# Altium schematic symbol library Schlib_Elvees.SchLib: 3 symbols
Pins are listed as number, name and electrical type; pins without a type are passive.

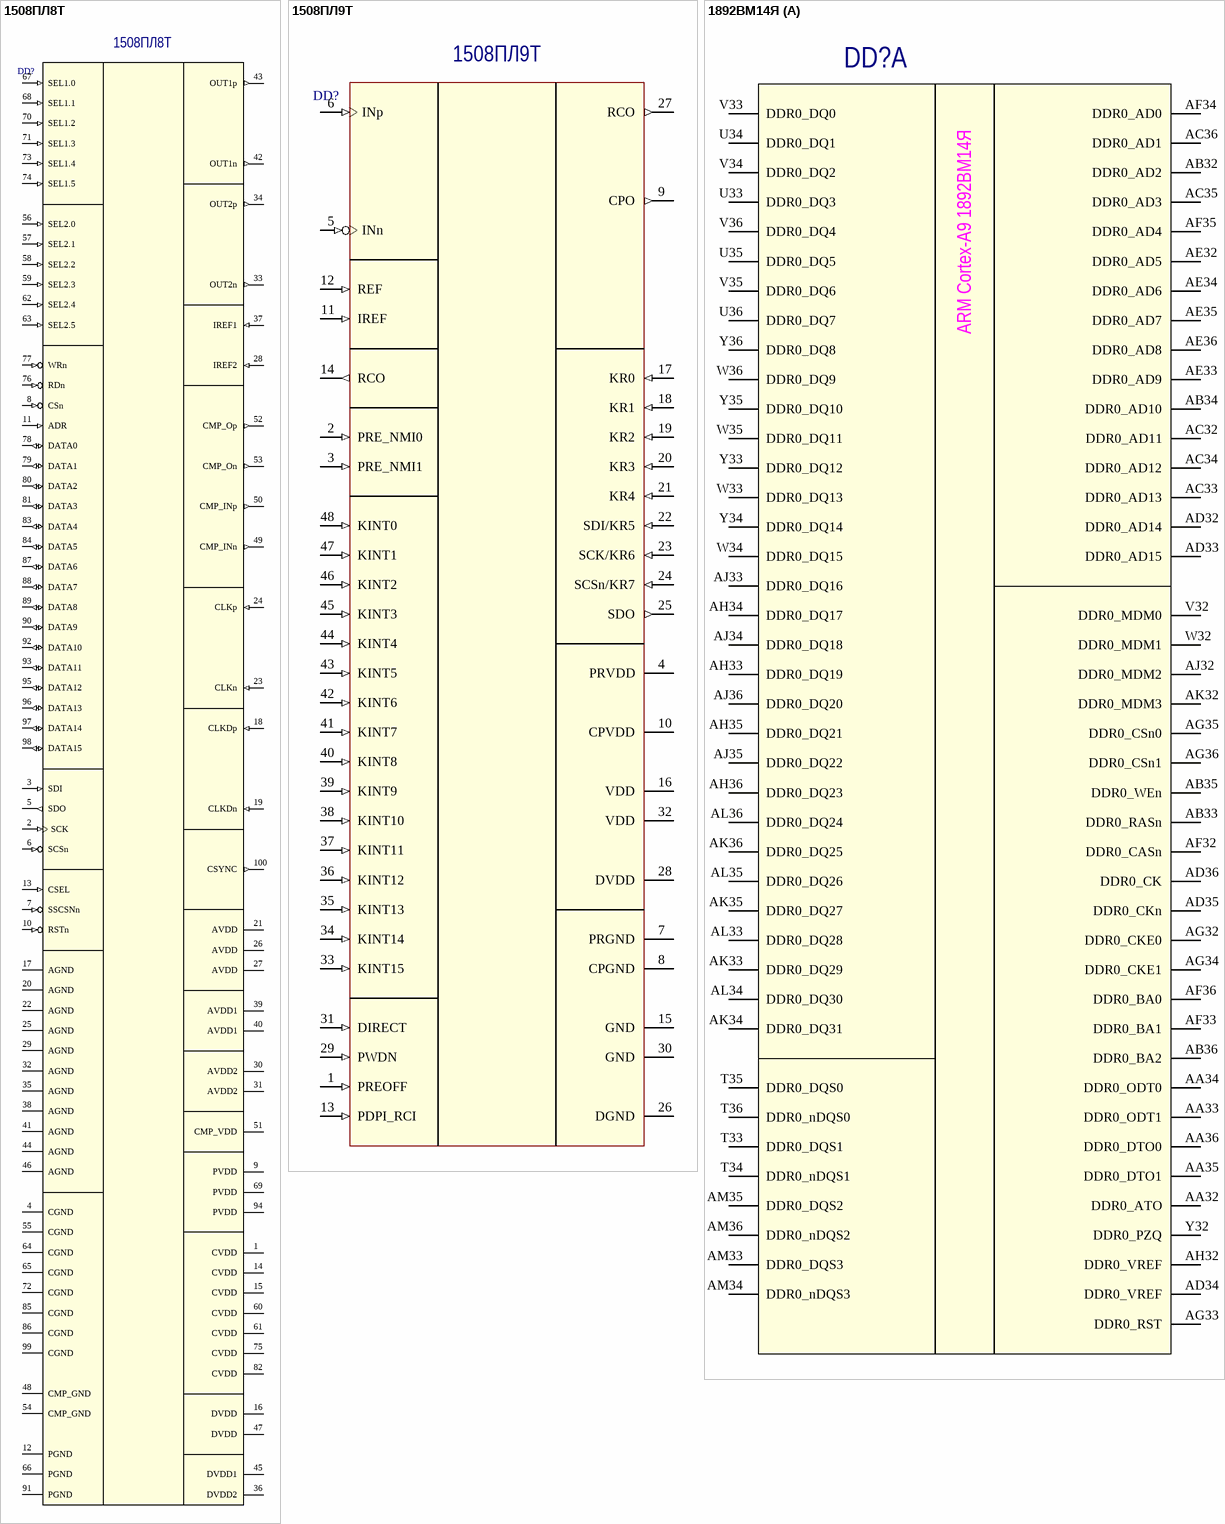
[diagram p0: symbols 1508ПЛ8Т to 1892ВМ14Я]

## 1508ПЛ8Т
designator DD?
DDS; Package: LQFP-100; Part Number: 1508ПЛ8Т
footprint LQFP-100 (TSQFP, 100-Leads, Body 14,00x14,00mm, Pitch 0,50mm, IPC Medium Density)
pins: 1 CVDD (power), 2 SCK (in), 3 SDI (in), 4 CGND (power), 5 SDO (out), 6 SCSn (in), 7 SSCSNn (in), 8 CSn (in), 9 PVDD (power), 10 RSTn (in), 11 ADR (in), 12 PGND (power), 13 CSEL (in), 14 CVDD (power), 15 CVDD (power), 16 DVDD (power), 17 AGND (power), 18 CLKDp (in), 19 CLKDn (in), 20 AGND (power), 21 AVDD (power), 22 AGND (power), 23 CLKn (in), 24 CLKp (in), 25 AGND (power), 26 AVDD (power), 27 AVDD (power), 28 IREF2 (in), 29 AGND (power), 30 AVDD2 (power), 31 AVDD2 (power), 32 AGND (power), 33 OUT2n (out), 34 OUT2p (out), 35 AGND (power), 36 DVDD2 (power), 37 IREF1 (in), 38 AGND (power), 39 AVDD1 (power), 40 AVDD1 (power), 41 AGND (power), 42 OUT1n (out), 43 OUT1p (out), 44 AGND (power), 45 DVDD1 (power), 46 AGND (power), 47 DVDD (power), 48 CMP_GND (power), 49 CMP_INn (out), 50 CMP_INp (out), 51 CMP_VDD (power), 52 CMP_Op (out), 53 CMP_On (out), 54 CMP_GND (power), 55 CGND (power), 56 SEL2.0 (in), 57 SEL2.1 (in), 58 SEL2.2 (in), 59 SEL2.3 (in), 60 CVDD (power), 61 CVDD (power), 62 SEL2.4 (in), 63 SEL2.5 (in), 64 CGND (power), 65 CGND (power), 66 PGND (power), 67 SEL1.0 (in), 68 SEL1.1 (in), 69 PVDD (power), 70 SEL1.2 (in), 71 SEL1.3 (in), 72 CGND (power), 73 SEL1.4 (in), 74 SEL1.5 (in), 75 CVDD (power), 76 RDn (in), 77 WRn (in), 78 DATA0 (io), 79 DATA1 (io), 80 DATA2 (io), 81 DATA3 (io), 82 CVDD (power), 83 DATA4 (io), 84 DATA5 (io), 85 CGND (power), 86 CGND (power), 87 DATA6 (io), 88 DATA7 (io), 89 DATA8 (io), 90 DATA9 (io), 91 PGND (power), 92 DATA10 (io), 93 DATA11 (io), 94 PVDD (power), 95 DATA12 (io), 96 DATA13 (io), 97 DATA14 (io), 98 DATA15 (io), 99 CGND (power), 100 CSYNC (out)

## 1508ПЛ9Т
designator DD?
PLL; Package: LQFP-48; Part Number: 1508ПЛ9Т
footprint LQFP-48 (TSQFP, 48-Leads, Body 7,00x7,00mm, Pitch 0,50mm, IPC Medium Density)
pins: 1 PREOFF (in), 2 PRE_NMI0 (in), 3 PRE_NMI1 (in), 4 PRVDD (power), 5 INn (in), 6 INp (in), 7 PRGND (power), 8 CPGND (power), 9 CPO (out), 10 CPVDD (power), 11 IREF (in), 12 REF (in), 13 PDPI_RCI (in), 14 RCO (out), 15 GND (power), 16 VDD (power), 17 KR0 (in), 18 KR1 (in), 19 KR2 (in), 20 KR3 (in), 21 KR4 (in), 22 SDI/KR5 (in), 23 SCK/KR6 (in), 24 SCSn/KR7 (in), 25 SDO (out), 26 DGND (power), 27 RCO (out), 28 DVDD (power), 29 PWDN (in), 30 GND (power), 31 DIRECT (in), 32 VDD (power), 33 KINT15 (in), 34 KINT14 (in), 35 KINT13 (in), 36 KINT12 (in), 37 KINT11 (in), 38 KINT10 (in), 39 KINT9 (in), 40 KINT8 (in), 41 KINT7 (in), 42 KINT6 (in), 43 KINT5 (in), 44 KINT4 (in), 45 KINT3 (in), 46 KINT2 (in), 47 KINT1 (in), 48 KINT0 (in)

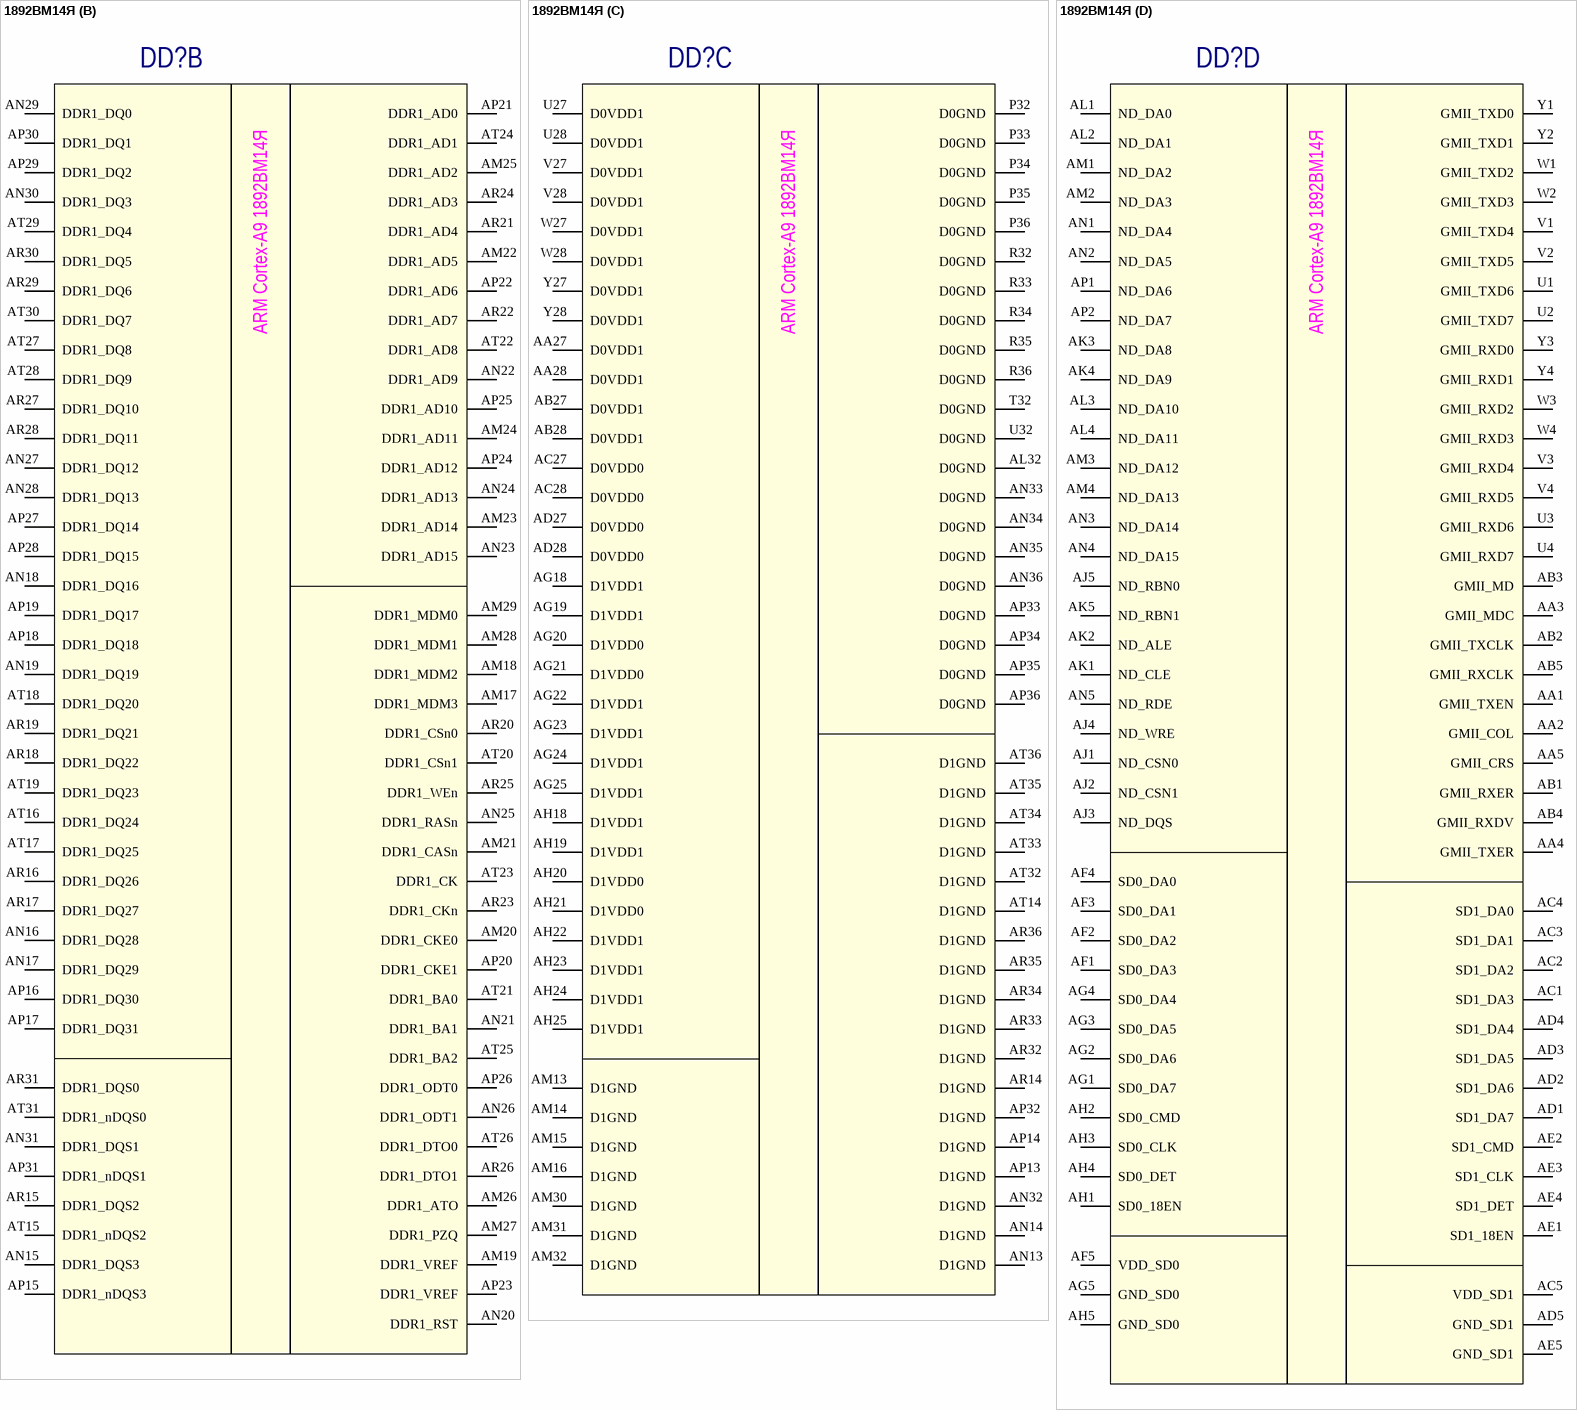
[diagram p1: symbol 1892ВМ14Я]

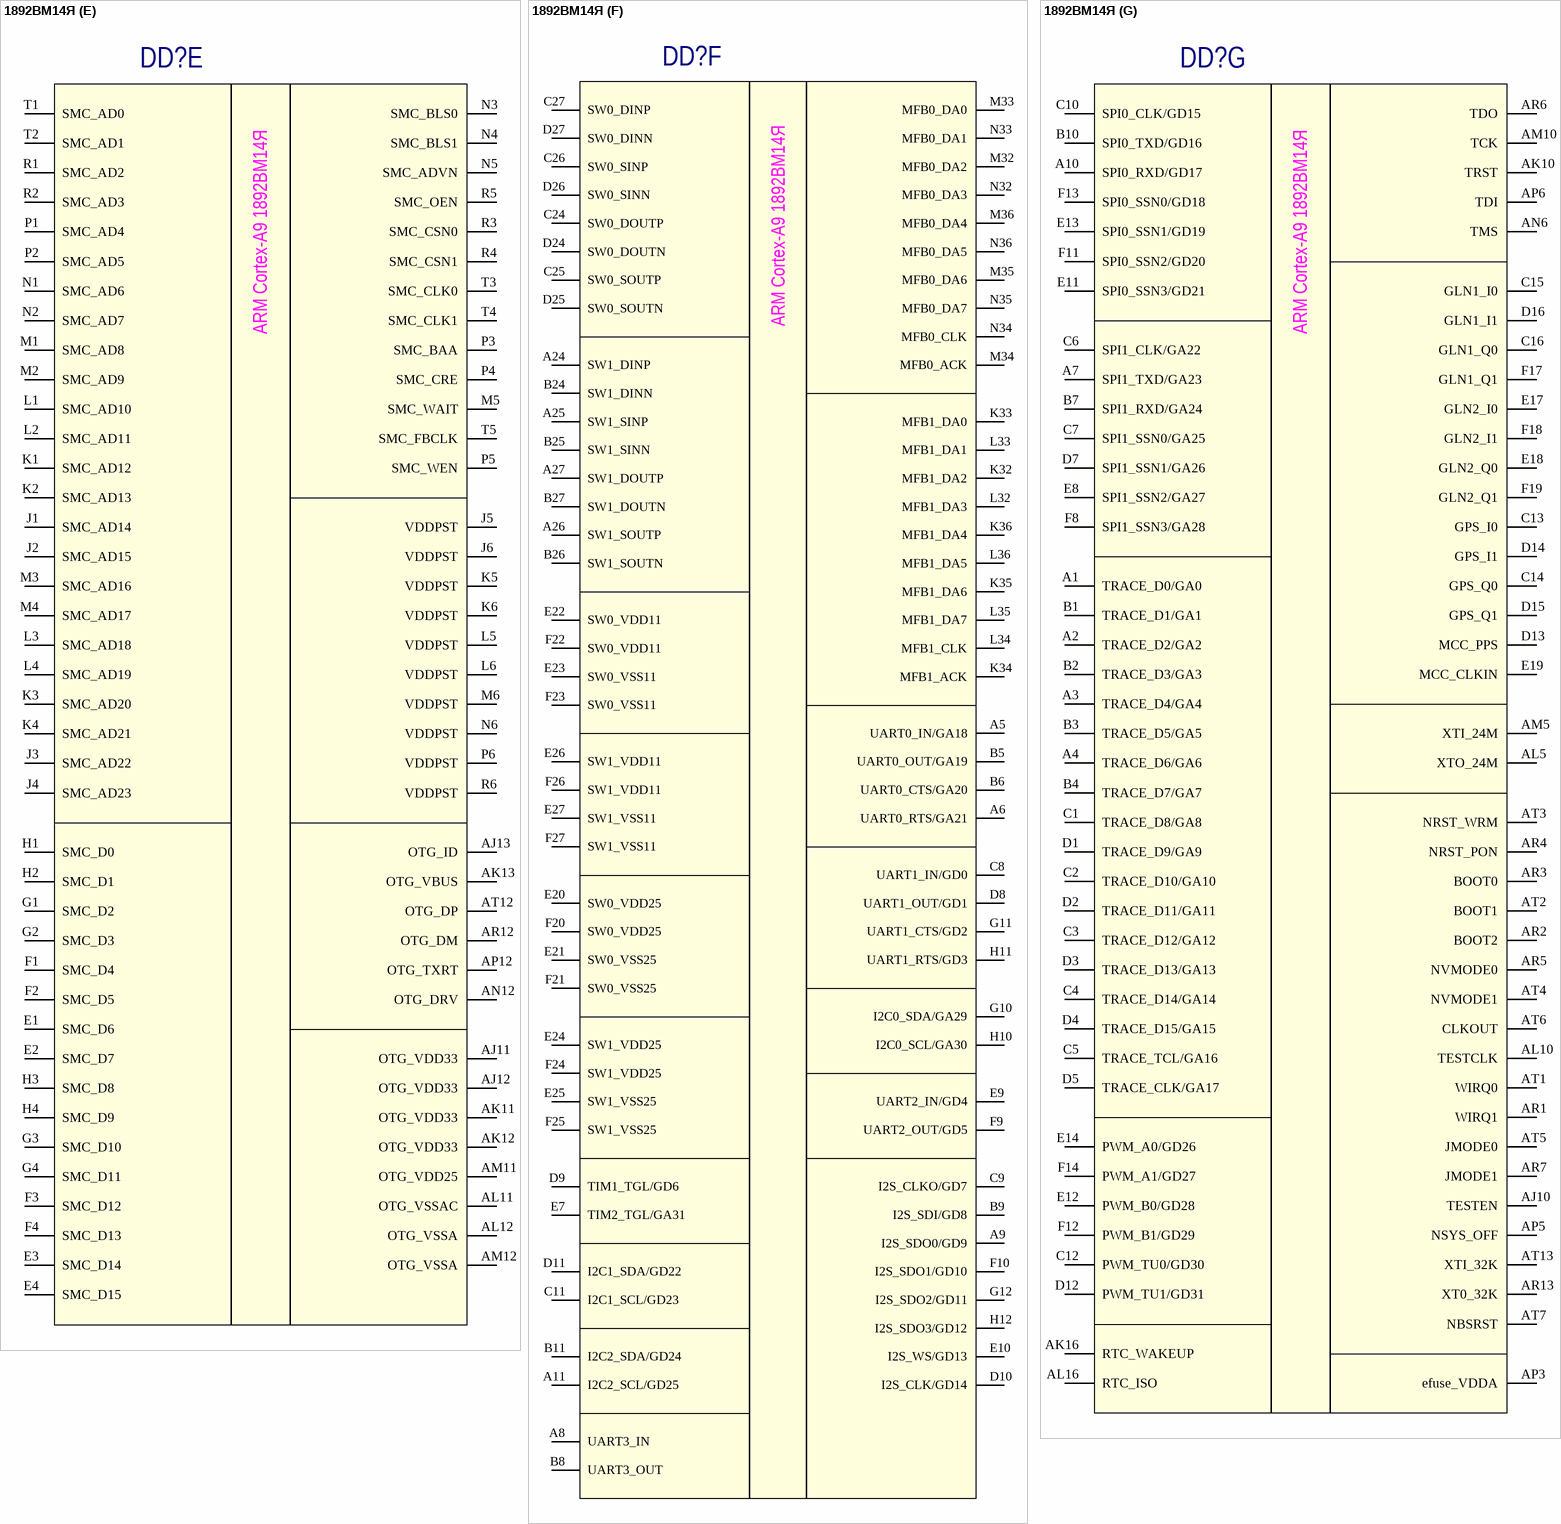
[diagram p2: symbol 1892ВМ14Я]

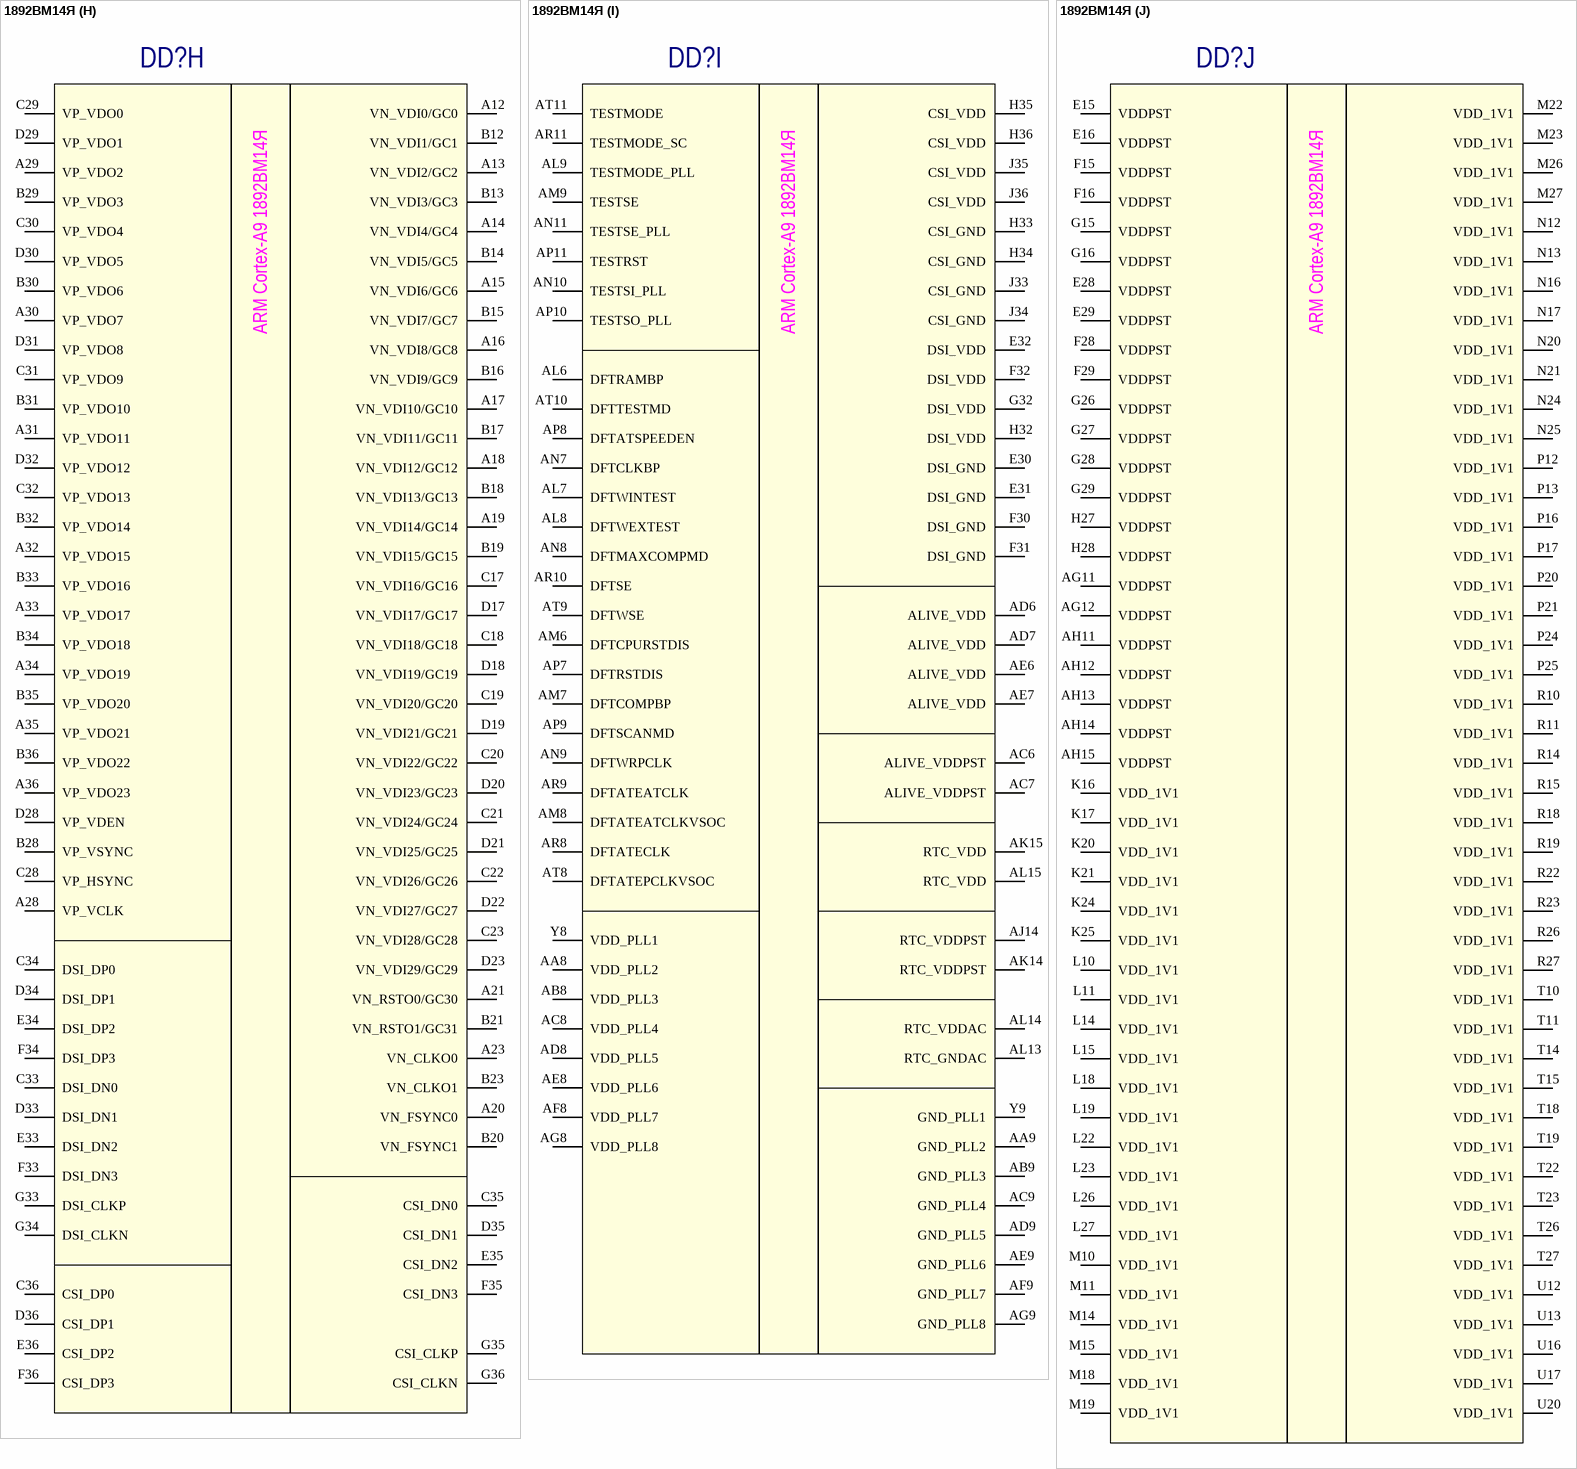
[diagram p3: symbol 1892ВМ14Я]

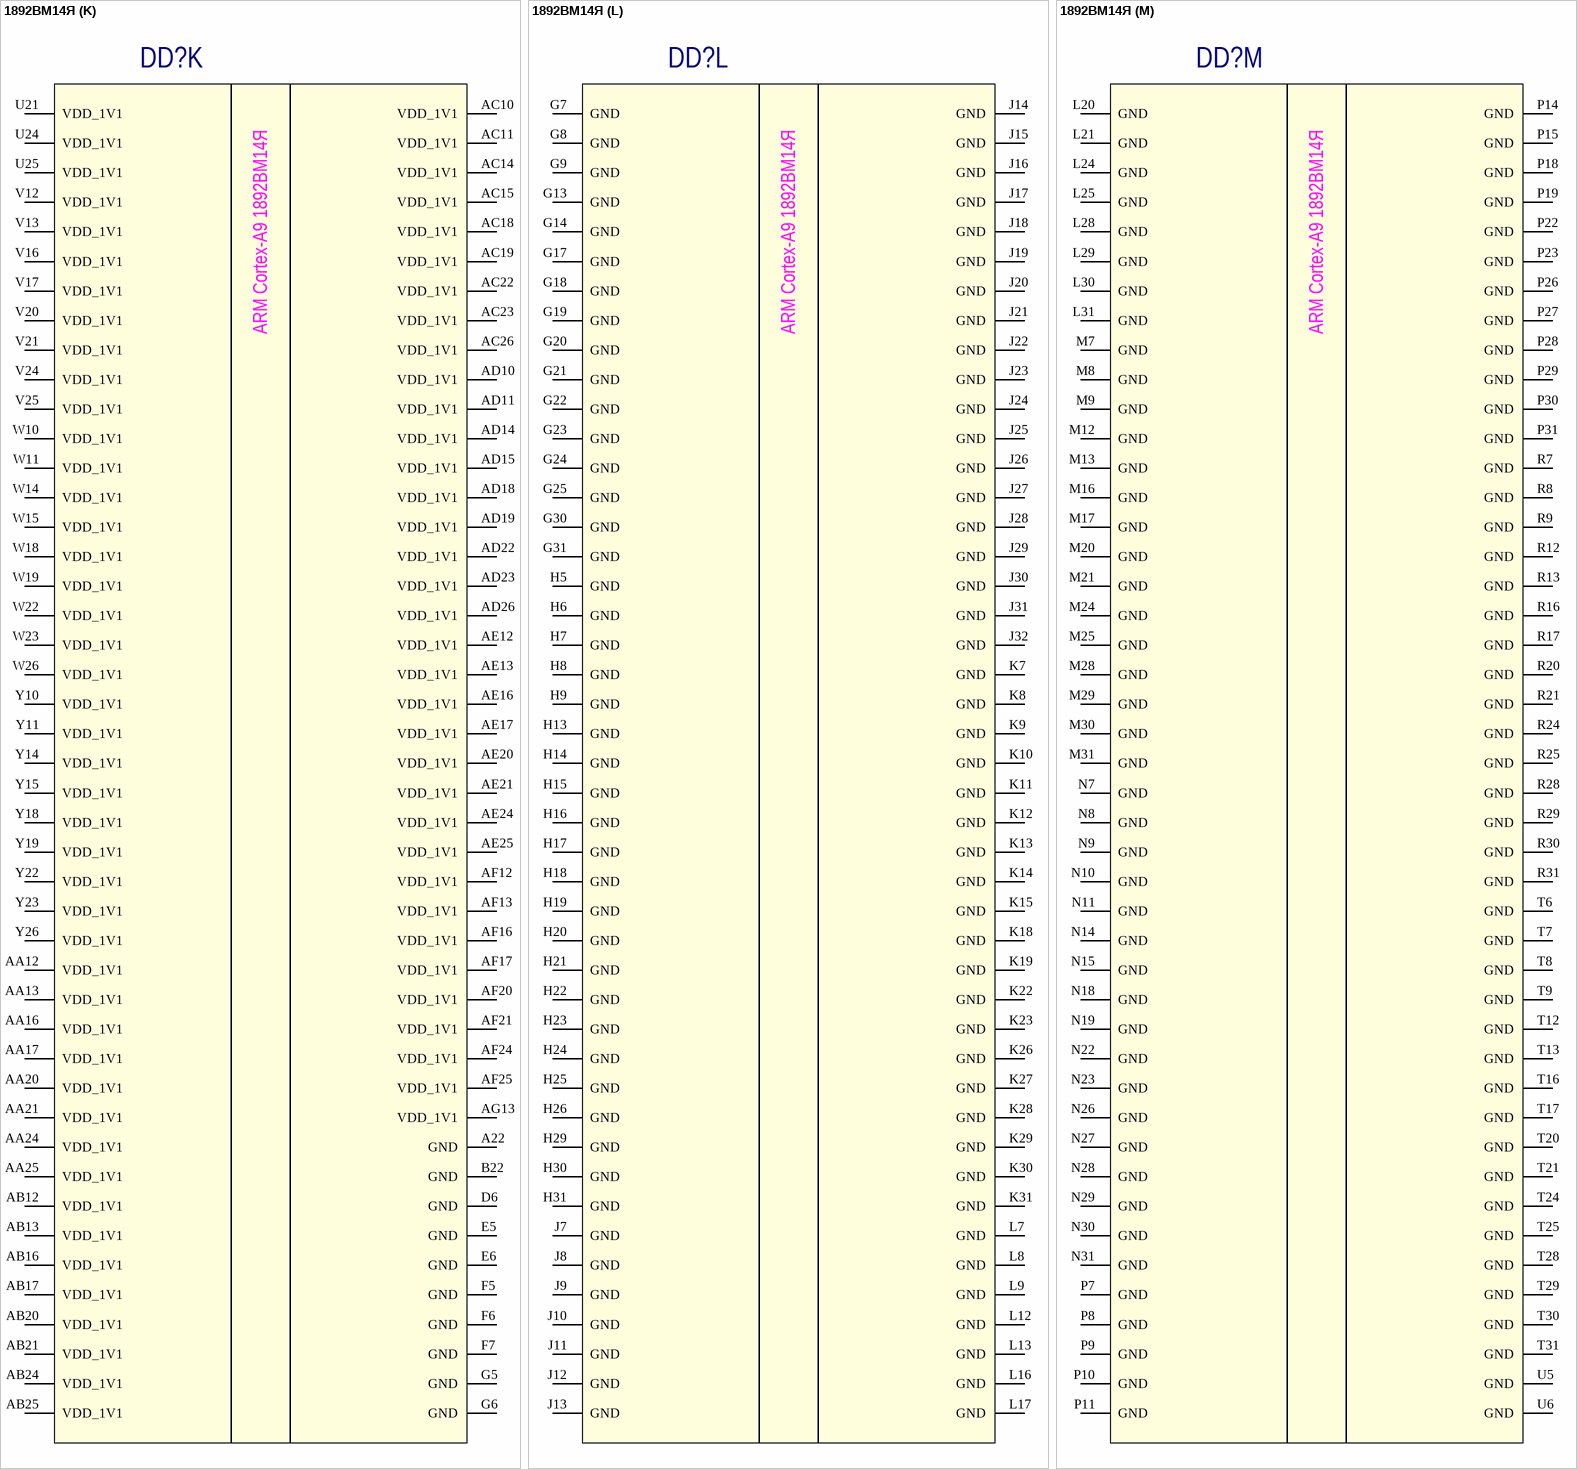
[diagram p4: symbol 1892ВМ14Я]

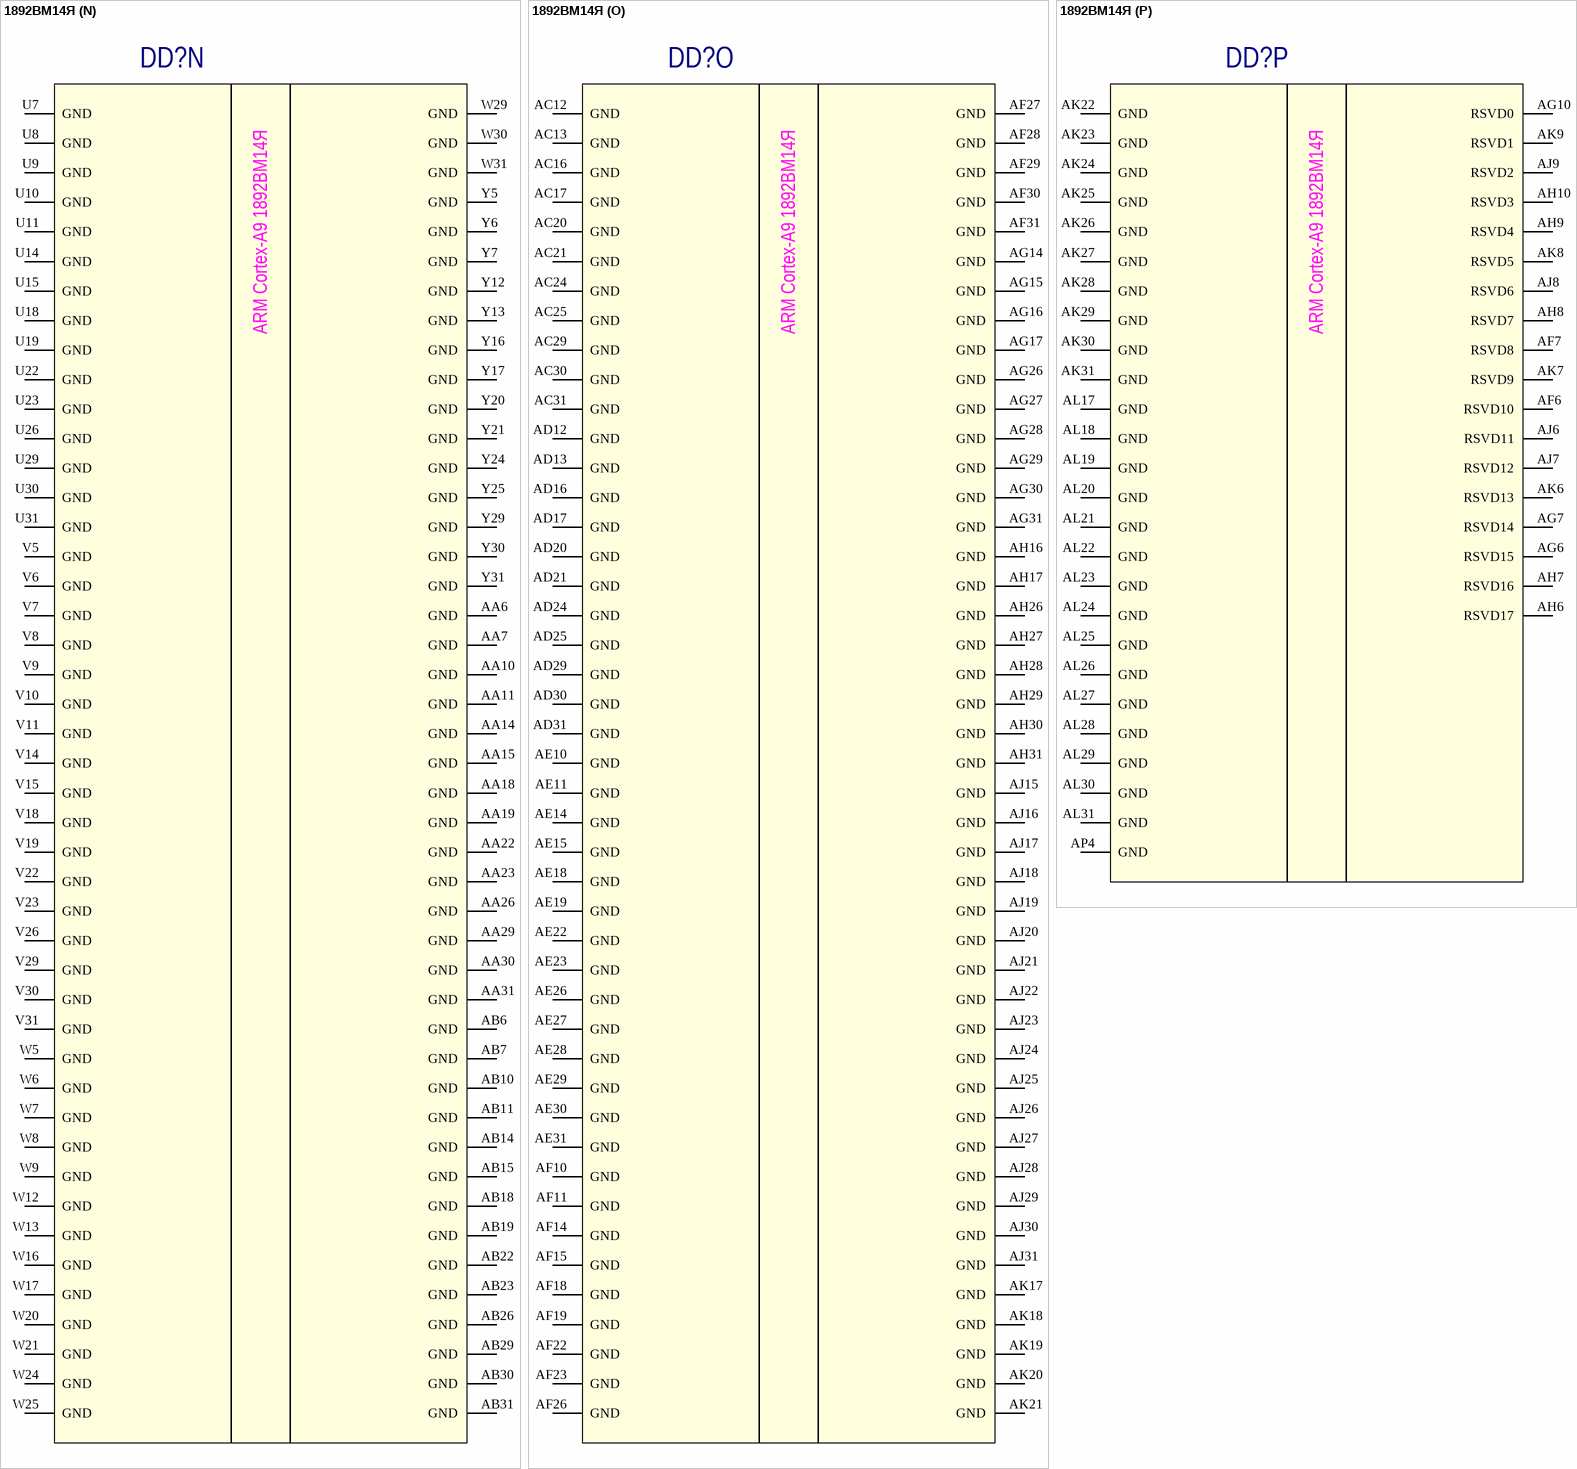
[diagram p5: symbol 1892ВМ14Я]

## 1892ВМ14Я
designator DD?  (value not drawn)
CPU; Manufacturer: Elvees; ComponentLink1Description: Datasheet; Part Number: 1892ВМ14Я; Package: BGA1296
footprint BGA1296 (36x36pin_19x19mm)
part A pins: AA32 DDR0_ATO "Byte Low Enable", AA33 DDR0_ODT1 "Byte Low Enable", AA34 DDR0_ODT0 "Byte Low Enable", AA35 DDR0_DTO1 "Byte Low Enable", AA36 DDR0_DTO0 "Byte Low Enable", AB32 DDR0_AD2, AB33 DDR0_RASn "Byte Low Enable", AB34 DDR0_AD10 "Output Enables", AB35 DDR0_WEn "Byte Low Enable", AB36 DDR0_BA2 "Byte Low Enable", AC32 DDR0_AD11 "Write Enable", AC33 DDR0_AD13 "Byte Low Enable", AC34 DDR0_AD12 "Byte High Enable", AC35 DDR0_AD3, AC36 DDR0_AD1, AD32 DDR0_AD14 "Byte Low Enable", AD33 DDR0_AD15 "Byte Low Enable", AD34 DDR0_VREF "Byte Low Enable", AD35 DDR0_CKn "Byte Low Enable", AD36 DDR0_CK "Byte Low Enable", AE32 DDR0_AD5, AE33 DDR0_AD9, AE34 DDR0_AD6, AE35 DDR0_AD7, AE36 DDR0_AD8, AF32 DDR0_CASn "Byte Low Enable", AF33 DDR0_BA1 "Byte Low Enable", AF34 DDR0_AD0, AF35 DDR0_AD4, AF36 DDR0_BA0 "Byte Low Enable", AG32 DDR0_CKE0 "Byte Low Enable", AG33 DDR0_RST "Byte Low Enable", AG34 DDR0_CKE1 "Byte Low Enable", AG35 DDR0_CSn0 "Byte Low Enable", AG36 DDR0_CSn1 "Byte Low Enable", AH32 DDR0_VREF "Byte Low Enable", AH33 DDR0_DQ19, AH34 DDR0_DQ17, AH35 DDR0_DQ21, AH36 DDR0_DQ23, AJ32 DDR0_MDM2 "Byte Low Enable", AJ33 DDR0_DQ16, AJ34 DDR0_DQ18, AJ35 DDR0_DQ22, AJ36 DDR0_DQ20, AK32 DDR0_MDM3 "Byte Low Enable", AK33 DDR0_DQ29, AK34 DDR0_DQ31, AK35 DDR0_DQ27, AK36 DDR0_DQ25, AL33 DDR0_DQ28, AL34 DDR0_DQ30, AL35 DDR0_DQ26, AL36 DDR0_DQ24, AM33 DDR0_DQS3, AM34 DDR0_nDQS3, AM35 DDR0_DQS2, AM36 DDR0_nDQS2, T33 DDR0_DQS1, T34 DDR0_nDQS1, T35 DDR0_DQS0, T36 DDR0_nDQS0, U33 DDR0_DQ3, U34 DDR0_DQ1, U35 DDR0_DQ5, U36 DDR0_DQ7, V32 DDR0_MDM0 "Byte Low Enable", V33 DDR0_DQ0, V34 DDR0_DQ2, V35 DDR0_DQ6, V36 DDR0_DQ4, W32 DDR0_MDM1 "Byte Low Enable", W33 DDR0_DQ13, W34 DDR0_DQ15, W35 DDR0_DQ11, W36 DDR0_DQ9, Y32 DDR0_PZQ "Byte Low Enable", Y33 DDR0_DQ12, Y34 DDR0_DQ14, Y35 DDR0_DQ10, Y36 DDR0_DQ8
part B pins: AM17 DDR1_MDM3 "Byte Low Enable", AM18 DDR1_MDM2 "Byte Low Enable", AM19 DDR1_VREF "Byte Low Enable", AM20 DDR1_CKE0 "Byte Low Enable", AM21 DDR1_CASn "Byte Low Enable", AM22 DDR1_AD5, AM23 DDR1_AD14 "Byte Low Enable", AM24 DDR1_AD11 "Write Enable", AM25 DDR1_AD2, AM26 DDR1_ATO "Byte Low Enable", AM27 DDR1_PZQ "Byte Low Enable", AM28 DDR1_MDM1 "Byte Low Enable", AM29 DDR1_MDM0 "Byte Low Enable", AN15 DDR1_DQS3, AN16 DDR1_DQ28, AN17 DDR1_DQ29, AN18 DDR1_DQ16, AN19 DDR1_DQ19, AN20 DDR1_RST "Byte Low Enable", AN21 DDR1_BA1 "Byte Low Enable", AN22 DDR1_AD9, AN23 DDR1_AD15 "Byte Low Enable", AN24 DDR1_AD13 "Byte Low Enable", AN25 DDR1_RASn "Byte Low Enable", AN26 DDR1_ODT1 "Byte Low Enable", AN27 DDR1_DQ12, AN28 DDR1_DQ13, AN29 DDR1_DQ0, AN30 DDR1_DQ3, AN31 DDR1_DQS1, AP15 DDR1_nDQS3, AP16 DDR1_DQ30, AP17 DDR1_DQ31, AP18 DDR1_DQ18, AP19 DDR1_DQ17, AP20 DDR1_CKE1 "Byte Low Enable", AP21 DDR1_AD0, AP22 DDR1_AD6, AP23 DDR1_VREF "Byte Low Enable", AP24 DDR1_AD12 "Byte High Enable", AP25 DDR1_AD10 "Output Enables", AP26 DDR1_ODT0 "Byte Low Enable", AP27 DDR1_DQ14, AP28 DDR1_DQ15, AP29 DDR1_DQ2, AP30 DDR1_DQ1, AP31 DDR1_nDQS1, AR15 DDR1_DQS2, AR16 DDR1_DQ26, AR17 DDR1_DQ27, AR18 DDR1_DQ22, AR19 DDR1_DQ21, AR20 DDR1_CSn0 "Byte Low Enable", AR21 DDR1_AD4, AR22 DDR1_AD7, AR23 DDR1_CKn "Byte Low Enable", AR24 DDR1_AD3, AR25 DDR1_WEn "Byte Low Enable", AR26 DDR1_DTO1 "Byte Low Enable", AR27 DDR1_DQ10, AR28 DDR1_DQ11, AR29 DDR1_DQ6, AR30 DDR1_DQ5, AR31 DDR1_DQS0, AT15 DDR1_nDQS2, AT16 DDR1_DQ24, AT17 DDR1_DQ25, AT18 DDR1_DQ20, AT19 DDR1_DQ23, AT20 DDR1_CSn1 "Byte Low Enable", AT21 DDR1_BA0 "Byte Low Enable", AT22 DDR1_AD8, AT23 DDR1_CK "Byte Low Enable", AT24 DDR1_AD1, AT25 DDR1_BA2 "Byte Low Enable", AT26 DDR1_DTO0 "Byte Low Enable", AT27 DDR1_DQ8, AT28 DDR1_DQ9, AT29 DDR1_DQ4, AT30 DDR1_DQ7, AT31 DDR1_nDQS0
part C pins: AA27 D0VDD1, AA28 D0VDD1, AB27 D0VDD1, AB28 D0VDD1, AC27 D0VDD0, AC28 D0VDD0, AD27 D0VDD0, AD28 D0VDD0, AG18 D1VDD1, AG19 D1VDD1, AG20 D1VDD0, AG21 D1VDD0, AG22 D1VDD1, AG23 D1VDD1, AG24 D1VDD1, AG25 D1VDD1, AH18 D1VDD1, AH19 D1VDD1, AH20 D1VDD0, AH21 D1VDD0, AH22 D1VDD1, AH23 D1VDD1, AH24 D1VDD1, AH25 D1VDD1, AL32 D0GND, AM13 D1GND, AM14 D1GND, AM15 D1GND, AM16 D1GND, AM30 D1GND, AM31 D1GND, AM32 D1GND, AN13 D1GND, AN14 D1GND, AN32 D1GND, AN33 D0GND, AN34 D0GND, AN35 D0GND, AN36 D0GND, AP13 D1GND, AP14 D1GND, AP32 D1GND, AP33 D0GND, AP34 D0GND, AP35 D0GND, AP36 D0GND, AR14 D1GND, AR32 D1GND, AR33 D1GND, AR34 D1GND, AR35 D1GND, AR36 D1GND, AT14 D1GND, AT32 D1GND, AT33 D1GND, AT34 D1GND, AT35 D1GND, AT36 D1GND, P32 D0GND, P33 D0GND, P34 D0GND, P35 D0GND, P36 D0GND, R32 D0GND, R33 D0GND, R34 D0GND, R35 D0GND, R36 D0GND, T32 D0GND, U27 D0VDD1, U28 D0VDD1, U32 D0GND, V27 D0VDD1, V28 D0VDD1, W27 D0VDD1, W28 D0VDD1, Y27 D0VDD1, Y28 D0VDD1
part D pins: AA1 GMII_TXEN, AA2 GMII_COL, AA3 GMII_MDC, AA4 GMII_TXER, AA5 GMII_CRS, AB1 GMII_RXER, AB2 GMII_TXCLK, AB3 GMII_MD, AB4 GMII_RXDV, AB5 GMII_RXCLK, AC1 SD1_DA3, AC2 SD1_DA2, AC3 SD1_DA1, AC4 SD1_DA0, AC5 VDD_SD1, AD1 SD1_DA7, AD2 SD1_DA6, AD3 SD1_DA5, AD4 SD1_DA4, AD5 GND_SD1, AE1 SD1_18EN, AE2 SD1_CMD, AE3 SD1_CLK, AE4 SD1_DET, AE5 GND_SD1, AF1 SD0_DA3, AF2 SD0_DA2, AF3 SD0_DA1, AF4 SD0_DA0, AF5 VDD_SD0, AG1 SD0_DA7, AG2 SD0_DA6, AG3 SD0_DA5, AG4 SD0_DA4, AG5 GND_SD0, AH1 SD0_18EN, AH2 SD0_CMD, AH3 SD0_CLK, AH4 SD0_DET, AH5 GND_SD0, AJ1 ND_CSN0, AJ2 ND_CSN1, AJ3 ND_DQS, AJ4 ND_WRE, AJ5 ND_RBN0, AK1 ND_CLE, AK2 ND_ALE, AK3 ND_DA8, AK4 ND_DA9, AK5 ND_RBN1, AL1 ND_DA0, AL2 ND_DA1, AL3 ND_DA10, AL4 ND_DA11, AM1 ND_DA2, AM2 ND_DA3, AM3 ND_DA12, AM4 ND_DA13, AN1 ND_DA4, AN2 ND_DA5, AN3 ND_DA14, AN4 ND_DA15, AN5 ND_RDE, AP1 ND_DA6, AP2 ND_DA7, U1 GMII_TXD6, U2 GMII_TXD7, U3 GMII_RXD6, U4 GMII_RXD7, V1 GMII_TXD4, V2 GMII_TXD5, V3 GMII_RXD4, V4 GMII_RXD5, W1 GMII_TXD2, W2 GMII_TXD3, W3 GMII_RXD2, W4 GMII_RXD3, Y1 GMII_TXD0, Y2 GMII_TXD1, Y3 GMII_RXD0, Y4 GMII_RXD1
part E pins: AJ11 OTG_VDD33, AJ12 OTG_VDD33, AJ13 OTG_ID, AK11 OTG_VDD33, AK12 OTG_VDD33, AK13 OTG_VBUS, AL11 OTG_VSSAC, AL12 OTG_VSSA, AM11 OTG_VDD25, AM12 OTG_VSSA, AN12 OTG_DRV, AP12 OTG_TXRT, AR12 OTG_DM, AT12 OTG_DP, E1 SMC_D6, E2 SMC_D7, E3 SMC_D14, E4 SMC_D15, F1 SMC_D4, F2 SMC_D5, F3 SMC_D12, F4 SMC_D13, G1 SMC_D2, G2 SMC_D3, G3 SMC_D10, G4 SMC_D11, H1 SMC_D0, H2 SMC_D1, H3 SMC_D8, H4 SMC_D9, J1 SMC_AD14, J2 SMC_AD15, J3 SMC_AD22, J4 SMC_AD23, J5 VDDPST, J6 VDDPST, K1 SMC_AD12, K2 SMC_AD13, K3 SMC_AD20, K4 SMC_AD21, K5 VDDPST, K6 VDDPST, L1 SMC_AD10, L2 SMC_AD11, L3 SMC_AD18, L4 SMC_AD19, L5 VDDPST, L6 VDDPST, M1 SMC_AD8, M2 SMC_AD9, M3 SMC_AD16, M4 SMC_AD17, M5 SMC_WAIT, M6 VDDPST, N1 SMC_AD6, N2 SMC_AD7, N3 SMC_BLS0, N4 SMC_BLS1, N5 SMC_ADVN, N6 VDDPST, P1 SMC_AD4, P2 SMC_AD5, P3 SMC_BAA, P4 SMC_CRE, P5 SMC_WEN, P6 VDDPST, R1 SMC_AD2, R2 SMC_AD3, R3 SMC_CSN0, R4 SMC_CSN1, R5 SMC_OEN, R6 VDDPST, T1 SMC_AD0, T2 SMC_AD1, T3 SMC_CLK0, T4 SMC_CLK1, T5 SMC_FBCLK
part F pins: A5 UART0_IN/GA18, A6 UART0_RTS/GA21, A8 UART3_IN, A9 I2S_SDO0/GD9, A11 I2C2_SCL/GD25, A24 SW1_DINP, A25 SW1_SINP, A26 SW1_SOUTP, A27 SW1_DOUTP, B5 UART0_OUT/GA19, B6 UART0_CTS/GA20, B8 UART3_OUT, B9 I2S_SDI/GD8, B11 I2C2_SDA/GD24, B24 SW1_DINN, B25 SW1_SINN, B26 SW1_SOUTN, B27 SW1_DOUTN, C8 UART1_IN/GD0, C9 I2S_CLKO/GD7, C11 I2C1_SCL/GD23, C24 SW0_DOUTP, C25 SW0_SOUTP, C26 SW0_SINP, C27 SW0_DINP, D8 UART1_OUT/GD1, D9 TIM1_TGL/GD6, D10 I2S_CLK/GD14, D11 I2C1_SDA/GD22, D24 SW0_DOUTN, D25 SW0_SOUTN, D26 SW0_SINN, D27 SW0_DINN, E7 TIM2_TGL/GA31, E9 UART2_IN/GD4, E10 I2S_WS/GD13, E20 SW0_VDD25, E21 SW0_VSS25, E22 SW0_VDD11, E23 SW0_VSS11, E24 SW1_VDD25, E25 SW1_VSS25, E26 SW1_VDD11, E27 SW1_VSS11, F9 UART2_OUT/GD5, F10 I2S_SDO1/GD10, F20 SW0_VDD25, F21 SW0_VSS25, F22 SW0_VDD11, F23 SW0_VSS11, F24 SW1_VDD25, F25 SW1_VSS25, F26 SW1_VDD11, F27 SW1_VSS11, G10 I2C0_SDA/GA29, G11 UART1_CTS/GD2, G12 I2S_SDO2/GD11, H10 I2C0_SCL/GA30, H11 UART1_RTS/GD3, H12 I2S_SDO3/GD12, K32 MFB1_DA2, K33 MFB1_DA0, K34 MFB1_ACK, K35 MFB1_DA6, K36 MFB1_DA4, L32 MFB1_DA3, L33 MFB1_DA1, L34 MFB1_CLK, L35 MFB1_DA7, L36 MFB1_DA5, M32 MFB0_DA2, M33 MFB0_DA0, M34 MFB0_ACK, M35 MFB0_DA6, M36 MFB0_DA4, N32 MFB0_DA3, N33 MFB0_DA1, N34 MFB0_CLK, N35 MFB0_DA7, N36 MFB0_DA5
part G pins: A1 TRACE_D0/GA0, A2 TRACE_D2/GA2, A3 TRACE_D4/GA4, A4 TRACE_D6/GA6, A7 SPI1_TXD/GA23, A10 SPI0_RXD/GD17, AJ10 TESTEN, AK10 TRST, AK16 RTC_WAKEUP, AL5 XTO_24M, AL10 TESTCLK, AL16 RTC_ISO, AM5 XTI_24M, AM10 TCK, AN6 TMS, AP3 efuse_VDDA, AP5 NSYS_OFF, AP6 TDI, AR1 WIRQ1, AR2 BOOT2, AR3 BOOT0, AR4 NRST_PON, AR5 NVMODE0, AR6 TDO, AR7 JMODE1, AR13 XT0_32K, AT1 WIRQ0, AT2 BOOT1, AT3 NRST_WRM, AT4 NVMODE1, AT5 JMODE0, AT6 CLKOUT, AT7 NBSRST, AT13 XTI_32K, B1 TRACE_D1/GA1, B2 TRACE_D3/GA3, B3 TRACE_D5/GA5, B4 TRACE_D7/GA7, B7 SPI1_RXD/GA24, B10 SPI0_TXD/GD16, C1 TRACE_D8/GA8, C2 TRACE_D10/GA10, C3 TRACE_D12/GA12, C4 TRACE_D14/GA14, C5 TRACE_TCL/GA16, C6 SPI1_CLK/GA22, C7 SPI1_SSN0/GA25, C10 SPI0_CLK/GD15, C12 PWM_TU0/GD30, C13 GPS_I0, C14 GPS_Q0, C15 GLN1_I0, C16 GLN1_Q0, D1 TRACE_D9/GA9, D2 TRACE_D11/GA11, D3 TRACE_D13/GA13, D4 TRACE_D15/GA15, D5 TRACE_CLK/GA17, D7 SPI1_SSN1/GA26, D12 PWM_TU1/GD31, D13 MCC_PPS, D14 GPS_I1, D15 GPS_Q1, D16 GLN1_I1, E8 SPI1_SSN2/GA27, E11 SPI0_SSN3/GD21, E12 PWM_B0/GD28, E13 SPI0_SSN1/GD19, E14 PWM_A0/GD26, E17 GLN2_I0, E18 GLN2_Q0, E19 MCC_CLKIN, F8 SPI1_SSN3/GA28, F11 SPI0_SSN2/GD20, F12 PWM_B1/GD29, F13 SPI0_SSN0/GD18, F14 PWM_A1/GD27, F17 GLN1_Q1, F18 GLN2_I1, F19 GLN2_Q1
part H pins: A12 VN_VDI0/GC0, A13 VN_VDI2/GC2, A14 VN_VDI4/GC4, A15 VN_VDI6/GC6, A16 VN_VDI8/GC8, A17 VN_VDI10/GC10, A18 VN_VDI12/GC12, A19 VN_VDI14/GC14, A20 VN_FSYNC0, A21 VN_RSTO0/GC30, A23 VN_CLKO0, A28 VP_VCLK, A29 VP_VDO2, A30 VP_VDO7, A31 VP_VDO11, A32 VP_VDO15, A33 VP_VDO17, A34 VP_VDO19, A35 VP_VDO21, A36 VP_VDO23, B12 VN_VDI1/GC1, B13 VN_VDI3/GC3, B14 VN_VDI5/GC5, B15 VN_VDI7/GC7, B16 VN_VDI9/GC9, B17 VN_VDI11/GC11, B18 VN_VDI13/GC13, B19 VN_VDI15/GC15, B20 VN_FSYNC1, B21 VN_RSTO1/GC31, B23 VN_CLKO1, B28 VP_VSYNC, B29 VP_VDO3, B30 VP_VDO6, B31 VP_VDO10, B32 VP_VDO14, B33 VP_VDO16, B34 VP_VDO18, B35 VP_VDO20, B36 VP_VDO22, C17 VN_VDI16/GC16, C18 VN_VDI18/GC18, C19 VN_VDI20/GC20, C20 VN_VDI22/GC22, C21 VN_VDI24/GC24, C22 VN_VDI26/GC26, C23 VN_VDI28/GC28, C28 VP_HSYNC, C29 VP_VDO0, C30 VP_VDO4, C31 VP_VDO9, C32 VP_VDO13, C33 DSI_DN0, C34 DSI_DP0, C35 CSI_DN0, C36 CSI_DP0, D17 VN_VDI17/GC17, D18 VN_VDI19/GC19, D19 VN_VDI21/GC21, D20 VN_VDI23/GC23, D21 VN_VDI25/GC25, D22 VN_VDI27/GC27, D23 VN_VDI29/GC29, D28 VP_VDEN, D29 VP_VDO1, D30 VP_VDO5, D31 VP_VDO8, D32 VP_VDO12, D33 DSI_DN1, D34 DSI_DP1, D35 CSI_DN1, D36 CSI_DP1, E33 DSI_DN2, E34 DSI_DP2, E35 CSI_DN2, E36 CSI_DP2, F33 DSI_DN3, F34 DSI_DP3, F35 CSI_DN3, F36 CSI_DP3, G33 DSI_CLKP, G34 DSI_CLKN, G35 CSI_CLKP, G36 CSI_CLKN
part I pins: AA8 VDD_PLL2, AA9 GND_PLL2, AB8 VDD_PLL3, AB9 GND_PLL3, AC6 ALIVE_VDDPST, AC7 ALIVE_VDDPST, AC8 VDD_PLL4, AC9 GND_PLL4, AD6 ALIVE_VDD, AD7 ALIVE_VDD, AD8 VDD_PLL5, AD9 GND_PLL5, AE6 ALIVE_VDD, AE7 ALIVE_VDD, AE8 VDD_PLL6, AE9 GND_PLL6, AF8 VDD_PLL7, AF9 GND_PLL7, AG8 VDD_PLL8, AG9 GND_PLL8, AJ14 RTC_VDDPST, AK14 RTC_VDDPST, AK15 RTC_VDD, AL6 DFTRAMBP, AL7 DFTWINTEST, AL8 DFTWEXTEST, AL9 TESTMODE_PLL, AL13 RTC_GNDAC, AL14 RTC_VDDAC, AL15 RTC_VDD, AM6 DFTCPURSTDIS, AM7 DFTCOMPBP, AM8 DFTATEATCLKVSOC, AM9 TESTSE, AN7 DFTCLKBP, AN8 DFTMAXCOMPMD, AN9 DFTWRPCLK, AN10 TESTSI_PLL, AN11 TESTSE_PLL, AP7 DFTRSTDIS, AP8 DFTATSPEEDEN, AP9 DFTSCANMD, AP10 TESTSO_PLL, AP11 TESTRST, AR8 DFTATECLK, AR9 DFTATEATCLK, AR10 DFTSE, AR11 TESTMODE_SC, AT8 DFTATEPCLKVSOC, AT9 DFTWSE, AT10 DFTTESTMD, AT11 TESTMODE, E30 DSI_GND, E31 DSI_GND, E32 DSI_VDD, F30 DSI_GND, F31 DSI_GND, F32 DSI_VDD, G32 DSI_VDD, H32 DSI_VDD, H33 CSI_GND, H34 CSI_GND, H35 CSI_VDD, H36 CSI_VDD, J33 CSI_GND, J34 CSI_GND, J35 CSI_VDD, J36 CSI_VDD, Y8 VDD_PLL1, Y9 GND_PLL1
part J pins: AG11 VDDPST, AG12 VDDPST, AH11 VDDPST, AH12 VDDPST, AH13 VDDPST, AH14 VDDPST, AH15 VDDPST, E15 VDDPST, E16 VDDPST, E28 VDDPST, E29 VDDPST, F15 VDDPST, F16 VDDPST, F28 VDDPST, F29 VDDPST, G15 VDDPST, G16 VDDPST, G26 VDDPST, G27 VDDPST, G28 VDDPST, G29 VDDPST, H27 VDDPST, H28 VDDPST, K16 VDD_1V1, K17 VDD_1V1, K20 VDD_1V1, K21 VDD_1V1, K24 VDD_1V1, K25 VDD_1V1, L10 VDD_1V1, L11 VDD_1V1, L14 VDD_1V1, L15 VDD_1V1, L18 VDD_1V1, L19 VDD_1V1, L22 VDD_1V1, L23 VDD_1V1, L26 VDD_1V1, L27 VDD_1V1, M10 VDD_1V1, M11 VDD_1V1, M14 VDD_1V1, M15 VDD_1V1, M18 VDD_1V1, M19 VDD_1V1, M22 VDD_1V1, M23 VDD_1V1, M26 VDD_1V1, M27 VDD_1V1, N12 VDD_1V1, N13 VDD_1V1, N16 VDD_1V1, N17 VDD_1V1, N20 VDD_1V1, N21 VDD_1V1, N24 VDD_1V1, N25 VDD_1V1, P12 VDD_1V1, P13 VDD_1V1, P16 VDD_1V1, P17 VDD_1V1, P20 VDD_1V1, P21 VDD_1V1, P24 VDD_1V1, P25 VDD_1V1, R10 VDD_1V1, R11 VDD_1V1, R14 VDD_1V1, R15 VDD_1V1, R18 VDD_1V1, R19 VDD_1V1, R22 VDD_1V1, R23 VDD_1V1, R26 VDD_1V1, R27 VDD_1V1, T10 VDD_1V1, T11 VDD_1V1, T14 VDD_1V1, T15 VDD_1V1, T18 VDD_1V1, T19 VDD_1V1, T22 VDD_1V1, T23 VDD_1V1, T26 VDD_1V1, T27 VDD_1V1, U12 VDD_1V1, U13 VDD_1V1, U16 VDD_1V1, U17 VDD_1V1, U20 VDD_1V1
part K pins: A22 GND, AA12 VDD_1V1, AA13 VDD_1V1, AA16 VDD_1V1, AA17 VDD_1V1, AA20 VDD_1V1, AA21 VDD_1V1, AA24 VDD_1V1, AA25 VDD_1V1, AB12 VDD_1V1, AB13 VDD_1V1, AB16 VDD_1V1, AB17 VDD_1V1, AB20 VDD_1V1, AB21 VDD_1V1, AB24 VDD_1V1, AB25 VDD_1V1, AC10 VDD_1V1, AC11 VDD_1V1, AC14 VDD_1V1, AC15 VDD_1V1, AC18 VDD_1V1, AC19 VDD_1V1, AC22 VDD_1V1, AC23 VDD_1V1, AC26 VDD_1V1, AD10 VDD_1V1, AD11 VDD_1V1, AD14 VDD_1V1, AD15 VDD_1V1, AD18 VDD_1V1, AD19 VDD_1V1, AD22 VDD_1V1, AD23 VDD_1V1, AD26 VDD_1V1, AE12 VDD_1V1, AE13 VDD_1V1, AE16 VDD_1V1, AE17 VDD_1V1, AE20 VDD_1V1, AE21 VDD_1V1, AE24 VDD_1V1, AE25 VDD_1V1, AF12 VDD_1V1, AF13 VDD_1V1, AF16 VDD_1V1, AF17 VDD_1V1, AF20 VDD_1V1, AF21 VDD_1V1, AF24 VDD_1V1, AF25 VDD_1V1, AG13 VDD_1V1, B22 GND, D6 GND, E5 GND, E6 GND, F5 GND, F6 GND, F7 GND, G5 GND, G6 GND, U21 VDD_1V1, U24 VDD_1V1, U25 VDD_1V1, V12 VDD_1V1, V13 VDD_1V1, V16 VDD_1V1, V17 VDD_1V1, V20 VDD_1V1, V21 VDD_1V1, V24 VDD_1V1, V25 VDD_1V1, W10 VDD_1V1, W11 VDD_1V1, W14 VDD_1V1, W15 VDD_1V1, W18 VDD_1V1, W19 VDD_1V1, W22 VDD_1V1, W23 VDD_1V1, W26 VDD_1V1, Y10 VDD_1V1, Y11 VDD_1V1, Y14 VDD_1V1, Y15 VDD_1V1, Y18 VDD_1V1, Y19 VDD_1V1, Y22 VDD_1V1, Y23 VDD_1V1, Y26 VDD_1V1
part L pins: G7 GND, G8 GND, G9 GND, G13 GND, G14 GND, G17 GND, G18 GND, G19 GND, G20 GND, G21 GND, G22 GND, G23 GND, G24 GND, G25 GND, G30 GND, G31 GND, H5 GND, H6 GND, H7 GND, H8 GND, H9 GND, H13 GND, H14 GND, H15 GND, H16 GND, H17 GND, H18 GND, H19 GND, H20 GND, H21 GND, H22 GND, H23 GND, H24 GND, H25 GND, H26 GND, H29 GND, H30 GND, H31 GND, J7 GND, J8 GND, J9 GND, J10 GND, J11 GND, J12 GND, J13 GND, J14 GND, J15 GND, J16 GND, J17 GND, J18 GND, J19 GND, J20 GND, J21 GND, J22 GND, J23 GND, J24 GND, J25 GND, J26 GND, J27 GND, J28 GND, J29 GND, J30 GND, J31 GND, J32 GND, K7 GND, K8 GND, K9 GND, K10 GND, K11 GND, K12 GND, K13 GND, K14 GND, K15 GND, K18 GND, K19 GND, K22 GND, K23 GND, K26 GND, K27 GND, K28 GND, K29 GND, K30 GND, K31 GND, L7 GND, L8 GND, L9 GND, L12 GND, L13 GND, L16 GND, L17 GND
part M pins: L20 GND, L21 GND, L24 GND, L25 GND, L28 GND, L29 GND, L30 GND, L31 GND, M7 GND, M8 GND, M9 GND, M12 GND, M13 GND, M16 GND, M17 GND, M20 GND, M21 GND, M24 GND, M25 GND, M28 GND, M29 GND, M30 GND, M31 GND, N7 GND, N8 GND, N9 GND, N10 GND, N11 GND, N14 GND, N15 GND, N18 GND, N19 GND, N22 GND, N23 GND, N26 GND, N27 GND, N28 GND, N29 GND, N30 GND, N31 GND, P7 GND, P8 GND, P9 GND, P10 GND, P11 GND, P14 GND, P15 GND, P18 GND, P19 GND, P22 GND, P23 GND, P26 GND, P27 GND, P28 GND, P29 GND, P30 GND, P31 GND, R7 GND, R8 GND, R9 GND, R12 GND, R13 GND, R16 GND, R17 GND, R20 GND, R21 GND, R24 GND, R25 GND, R28 GND, R29 GND, R30 GND, R31 GND, T6 GND, T7 GND, T8 GND, T9 GND, T12 GND, T13 GND, T16 GND, T17 GND, T20 GND, T21 GND, T24 GND, T25 GND, T28 GND, T29 GND, T30 GND, T31 GND, U5 GND, U6 GND
part N pins: AA6 GND, AA7 GND, AA10 GND, AA11 GND, AA14 GND, AA15 GND, AA18 GND, AA19 GND, AA22 GND, AA23 GND, AA26 GND, AA29 GND, AA30 GND, AA31 GND, AB6 GND, AB7 GND, AB10 GND, AB11 GND, AB14 GND, AB15 GND, AB18 GND, AB19 GND, AB22 GND, AB23 GND, AB26 GND, AB29 GND, AB30 GND, AB31 GND, U7 GND, U8 GND, U9 GND, U10 GND, U11 GND, U14 GND, U15 GND, U18 GND, U19 GND, U22 GND, U23 GND, U26 GND, U29 GND, U30 GND, U31 GND, V5 GND, V6 GND, V7 GND, V8 GND, V9 GND, V10 GND, V11 GND, V14 GND, V15 GND, V18 GND, V19 GND, V22 GND, V23 GND, V26 GND, V29 GND, V30 GND, V31 GND, W5 GND, W6 GND, W7 GND, W8 GND, W9 GND, W12 GND, W13 GND, W16 GND, W17 GND, W20 GND, W21 GND, W24 GND, W25 GND, W29 GND, W30 GND, W31 GND, Y5 GND, Y6 GND, Y7 GND, Y12 GND, Y13 GND, Y16 GND, Y17 GND, Y20 GND, Y21 GND, Y24 GND, Y25 GND, Y29 GND, Y30 GND, Y31 GND
part O pins: AC12 GND, AC13 GND, AC16 GND, AC17 GND, AC20 GND, AC21 GND, AC24 GND, AC25 GND, AC29 GND, AC30 GND, AC31 GND, AD12 GND, AD13 GND, AD16 GND, AD17 GND, AD20 GND, AD21 GND, AD24 GND, AD25 GND, AD29 GND, AD30 GND, AD31 GND, AE10 GND, AE11 GND, AE14 GND, AE15 GND, AE18 GND, AE19 GND, AE22 GND, AE23 GND, AE26 GND, AE27 GND, AE28 GND, AE29 GND, AE30 GND, AE31 GND, AF10 GND, AF11 GND, AF14 GND, AF15 GND, AF18 GND, AF19 GND, AF22 GND, AF23 GND, AF26 GND, AF27 GND, AF28 GND, AF29 GND, AF30 GND, AF31 GND, AG14 GND, AG15 GND, AG16 GND, AG17 GND, AG26 GND, AG27 GND, AG28 GND, AG29 GND, AG30 GND, AG31 GND, AH16 GND, AH17 GND, AH26 GND, AH27 GND, AH28 GND, AH29 GND, AH30 GND, AH31 GND, AJ15 GND, AJ16 GND, AJ17 GND, AJ18 GND, AJ19 GND, AJ20 GND, AJ21 GND, AJ22 GND, AJ23 GND, AJ24 GND, AJ25 GND, AJ26 GND, AJ27 GND, AJ28 GND, AJ29 GND, AJ30 GND, AJ31 GND, AK17 GND, AK18 GND, AK19 GND, AK20 GND, AK21 GND
part P pins: AF6 RSVD10, AF7 RSVD8, AG6 RSVD15, AG7 RSVD14, AG10 RSVD0, AH6 RSVD17, AH7 RSVD16, AH8 RSVD7, AH9 RSVD4, AH10 RSVD3, AJ6 RSVD11, AJ7 RSVD12, AJ8 RSVD6, AJ9 RSVD2, AK6 RSVD13, AK7 RSVD9, AK8 RSVD5, AK9 RSVD1, AK22 GND, AK23 GND, AK24 GND, AK25 GND, AK26 GND, AK27 GND, AK28 GND, AK29 GND, AK30 GND, AK31 GND, AL17 GND, AL18 GND, AL19 GND, AL20 GND, AL21 GND, AL22 GND, AL23 GND, AL24 GND, AL25 GND, AL26 GND, AL27 GND, AL28 GND, AL29 GND, AL30 GND, AL31 GND, AP4 GND
part A text: ARM Cortex-A9 1892ВМ14Я
part B text: ARM Cortex-A9 1892ВМ14Я
part C text: ARM Cortex-A9 1892ВМ14Я
part D text: ARM Cortex-A9 1892ВМ14Я
part E text: ARM Cortex-A9 1892ВМ14Я
part F text: ARM Cortex-A9 1892ВМ14Я
part G text: ARM Cortex-A9 1892ВМ14Я
part H text: ARM Cortex-A9 1892ВМ14Я
part I text: ARM Cortex-A9 1892ВМ14Я
part J text: ARM Cortex-A9 1892ВМ14Я
part K text: ARM Cortex-A9 1892ВМ14Я
part L text: ARM Cortex-A9 1892ВМ14Я
part M text: ARM Cortex-A9 1892ВМ14Я
part N text: ARM Cortex-A9 1892ВМ14Я
part O text: ARM Cortex-A9 1892ВМ14Я
part P text: ARM Cortex-A9 1892ВМ14Я